# Altium schematic symbol library KSS331GLFS.Schlib: 1 symbol
Pins are listed as number, name and electrical type; pins without a type are passive.

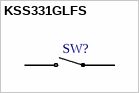
[diagram p0: symbol KSS331GLFS]

## KSS331GLFS
designator SW?  (value not drawn)
PB SW SM RA
pins: 1, 2